# EAGLE library part LTC1821 (library parts2011)
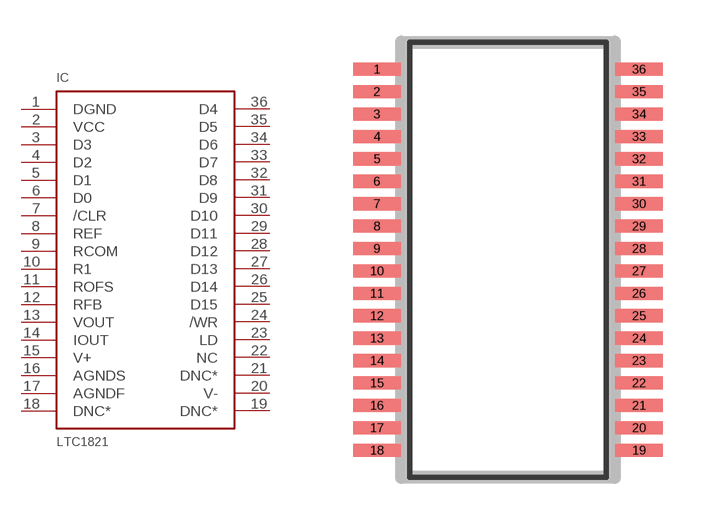
[diagram p0: symbol with the pads of SSOP-36; footprint SSOP-36]

Designator prefix IC

## LTC1821-SSOP-36  [SSOP-36]
1  DGND  pwr
2  VCC  pwr
3  D3  in
4  D2  in
5  D1  in
6  D0  in
7  /CLR  in
8  REF
9  RCOM
10  R1
11  ROFS
12  RFB
13  VOUT  out
14  IOUT  out
15  V+
16  AGNDS
17  AGNDF
18  DNC*
19  DNC*
20  V-
21  DNC*
22  NC
23  LD
24  /WR
25  D15
26  D14
27  D13
28  D12
29  D11
30  D10
31  D9
32  D8
33  D7
34  D6
35  D5
36  D4

## Footprint SSOP-36 (pad centres in mm)
smd 1.7 x 0.47: 1 -4.675,6.8; 2 -4.675,6; 3 -4.675,5.2; 4 -4.675,4.4; 5 -4.675,3.6; 6 -4.675,2.8; 7 -4.675,2; 8 -4.675,1.2; 9 -4.675,0.4; 10 -4.675,-0.4; 11 -4.675,-1.2; 12 -4.675,-2; 13 -4.675,-2.8; 14 -4.675,-3.6; 15 -4.675,-4.4; 16 -4.675,-5.2; 17 -4.675,-6; 18 -4.675,-6.8; 19 4.675,-6.8; 20 4.675,-6; 21 4.675,-5.2; 22 4.675,-4.4; 23 4.675,-3.6; 24 4.675,-2.8; 25 4.675,-2; 26 4.675,-1.2; 27 4.675,-0.4; 28 4.675,0.4; 29 4.675,1.2; 30 4.675,2; 31 4.675,2.8; 32 4.675,3.6; 33 4.675,4.4; 34 4.675,5.2; 35 4.675,6; 36 4.675,6.8